# Altium footprint library aistlab.PcbLib: 29 footprints (part 1 of 2)
Each footprint in its own frame and in the unit in brackets; x right, y up, seen from the top. Pads: shape width x height; smd on the part's side, far side on the other; paste and mask are expansions set on the pad; w line width, h text height; cw(c..) or ccw(c..) is an arc to the next point about the centre after c.
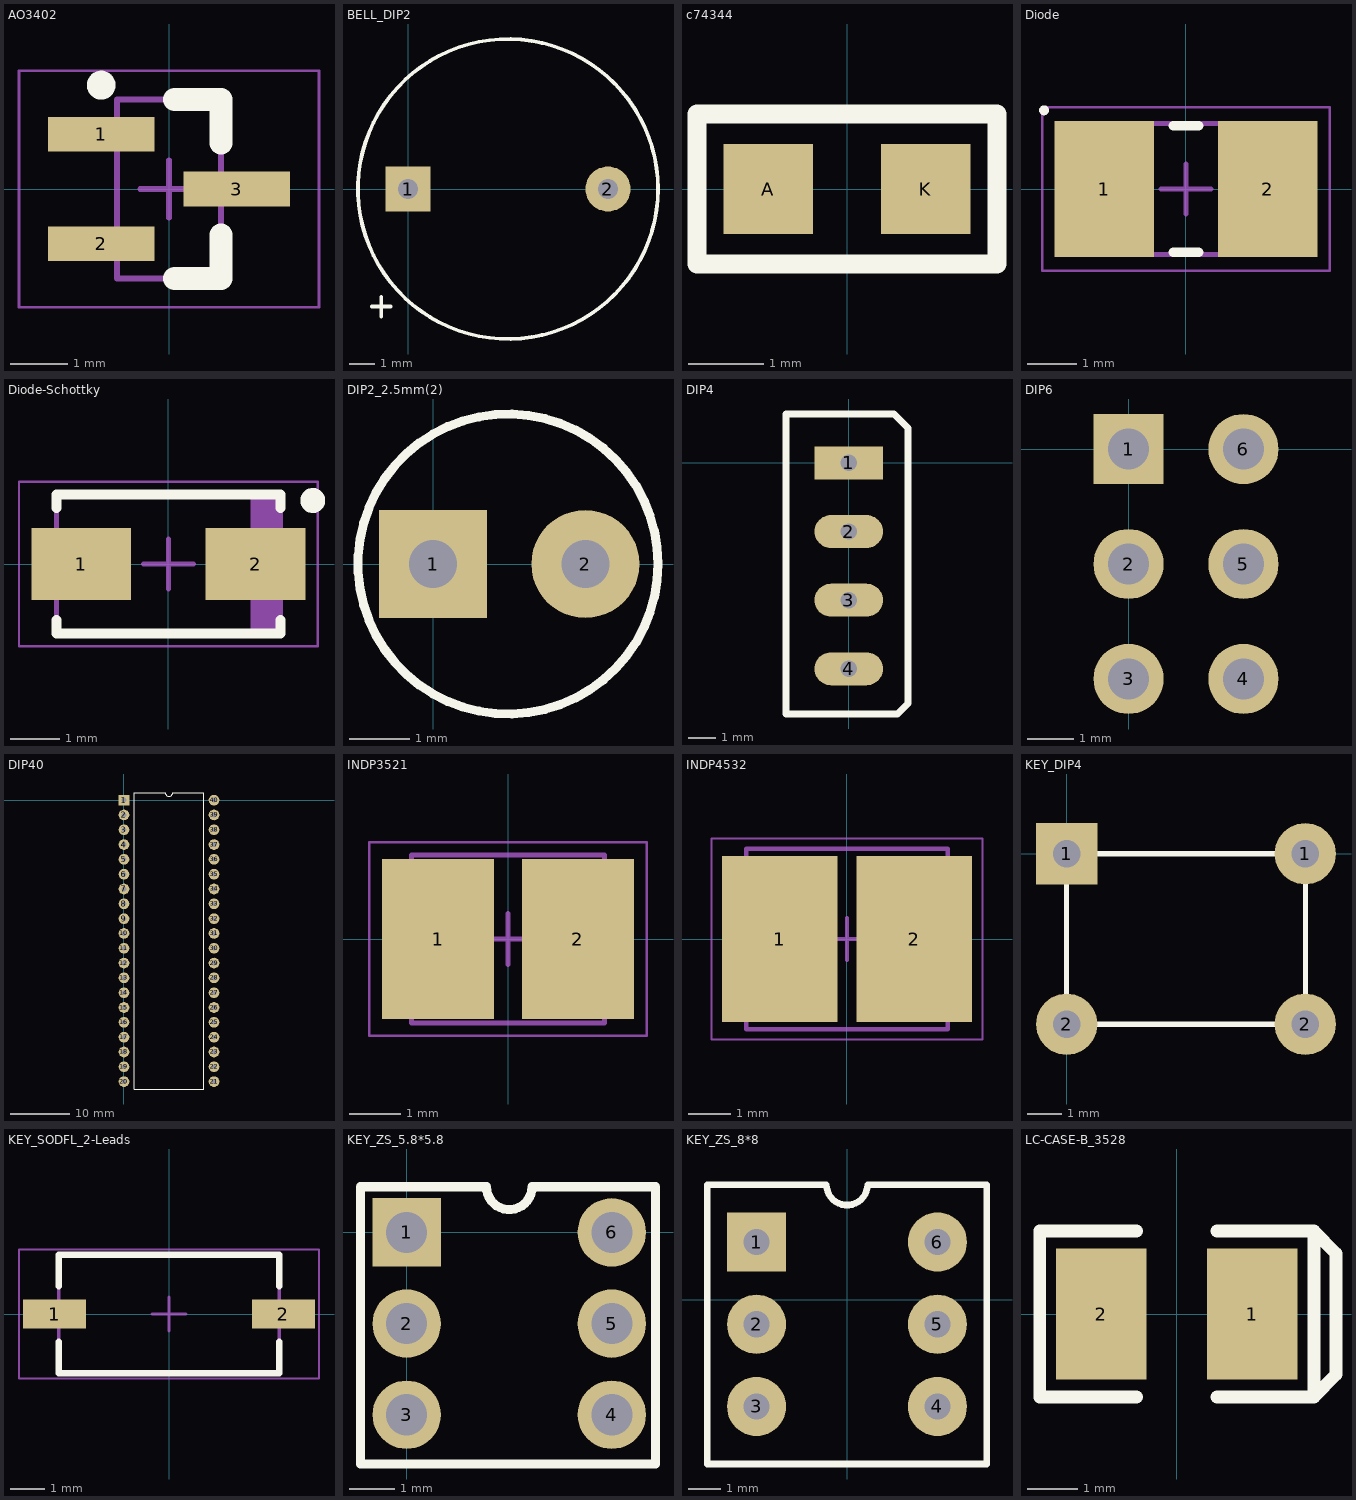
[diagram p0: the footprints below, top view; thin cyan lines are the x and y axes]

## AO3402 [mm] "SOT23, 3-Leads, Body 2.95x2.80mm, Pitch 0.95mm, IPC Low Density"
height 1.25
pads (3):
  rect 1.85x0.6 smd: 1(-1.175,0.95) 2(-1.175,-0.95) 3(1.175,0)
Top Overlay:
  circle w0.25: c-1.175,1.8 r0.125
  lines w0.4: 0.1,-1.55 0.9,-1.55 0.9,-0.8 ; 0.1,1.55 0.9,1.55 0.9,0.8
Mechanical 13:
  lines w0.1: -0.9,-1.55 -0.9,1.55 0.9,1.55 0.9,-1.55 -0.9,-1.55
Mechanical 15:
  lines w0.05: -2.6,-2.05 -2.6,2.05 2.6,2.05 2.6,-2.05 -2.6,-2.05
  lines w0.1: -0.5,0 0.5,0 ; 0,-0.5 0,0.5
3D body: height 1.25, standoff 0, extent -0.9,-1.55 0.9,1.55

## BELL_DIP2 [mm]
pads (2):
  rect 1.8x1.8 hole 0.8: 1(0,0)
  round 1.8 hole 0.8: 2(8,0)
Top Overlay:
  circle w0.15: c4,0 r6
  lines w0.15: -1.45,-4.7 -0.7,-4.7 ; -1.075,-5.1 -1.075,-4.325

## c74344 [mm]
pads (2):
  rect 1.2x1.2 smd: A(-1.05,0) K(1.05,0)
Top Overlay:
  lines w0.254: -2,-1 2,-1 2,1 -2,1 -2,-1

## Diode [mm] "Chip Capacitor, 2-Leads, Body 4.30x2.63mm, IPC Medium Density"
height 0.6
pads (2):
  rect 2x2.75 smd: 1(-1.65,0) 2(1.65,0)
Top Overlay:
  circle w0.1: c-2.862,1.587 r0.05
  lines w0.2: -0.25,-1.275 0.25,-1.275 ; -0.25,1.275 0.25,1.275
Mechanical 13:
  lines w0.1: -2.225,-1.325 2.225,-1.325 2.225,1.325 -2.225,1.325 -2.225,-1.325
Mechanical 15:
  lines w0.05: -2.9,-1.65 2.9,-1.65 2.9,1.65 -2.9,1.65 -2.9,-1.65
  lines w0.1: -0.5,0 0.5,0 ; 0,-0.5 0,0.5
3D body: height 0.6, standoff 0, extent 0.825,-1.325 2.225,1.325
3D body: height 0.6, standoff 0, extent -2.225,-1.325 -0.825,1.325
3D body: height 0.6, standoff 0, extent -0.825,-1.325 0.825,1.325

## Diode-Schottky [mm] "Molded Diode, 2-Leads, Body 4.25x2.67mm, IPC Medium Density"
height 2
pads (2):
  rect 2x1.45 smd: 1(-1.75,0) 2(1.75,0)
Top Overlay:
  circle w0.25: c2.9,1.275 r0.125
  lines w0.2: -2.25,-1.125 -2.25,-1.4 2.25,-1.4 2.25,-1.125 ; -2.25,1.125 -2.25,1.4 2.25,1.4 2.25,1.125
Mechanical 13:
  rectangle: 1.645,-1.4 2.25,1.4
  lines w0.1: -2.25,-1.4 -2.25,1.4 2.25,1.4 2.25,-1.4 -2.25,-1.4
Mechanical 15:
  lines w0.05: -3,-1.65 -3,1.65 3,1.65 3,-1.65 -3,-1.65
  lines w0.1: -0.5,0 0.5,0 ; 0,-0.5 0,0.5
3D body "DIOM4227X20N.step": height 2, standoff 0, extent -2.47,-1.4 2.47,1.4

## DIP2_2.5mm(2) [mm]
pads (2):
  rect 1.8x1.8 hole 0.8: 1(0,0)
  round 1.8 hole 0.8: 2(2.54,0)
Top Overlay:
  circle w0.15: c1.25,0 r2.5

## DIP4 [mm]
pads (4):
  rect 2.5x1.2 hole 0.6: 1(0,0)
  oval 2.5x1.2 hole 0.6: 2(0,-2.5) 3(0,-5) 4(0,-7.5)
Top Overlay:
  lines w0.254: -2.286,-9.144 -2.286,1.778 1.651,1.778 2.159,1.27 2.159,-8.763 1.778,-9.144 -2.286,-9.144

## DIP6 [mil]
pads (6):
  rect 60x60 hole 35: 1(0,0)
  round 60 hole 35: 2(0,-98.43) 3(0,-196.85) 4(98.43,-196.85) 5(98.43,-98.43) 6(98.43,0)

## DIP40 [mm]
pads (40):
  rect 1.8x1.8 hole 0.8: 1(0,0)
  round 1.8 hole 0.8: 2(0,-2.5) 3(0,-5) 4(0,-7.5) 5(0,-10) 6(0,-12.5) 7(0,-15) 8(0,-17.5) 9(0,-20) 10(0,-22.5) 11(0,-25) 12(0,-27.5) 13(0,-30) 14(0,-32.5) 15(0,-35) 16(0,-37.5) 17(0,-40) 18(0,-42.5) 19(0,-45) 20(0,-47.5) 21(15.2,-47.5) 22(15.2,-45) 23(15.2,-42.5) 24(15.2,-40) 25(15.2,-37.5) 26(15.2,-35) 27(15.2,-32.5) 28(15.2,-30) 29(15.2,-27.5) 30(15.2,-25) 31(15.2,-22.5) 32(15.2,-20) 33(15.2,-17.5) 34(15.2,-15) 35(15.2,-12.5) 36(15.2,-10) 37(15.2,-7.5) 38(15.2,-5) 39(15.2,-2.5) 40(15.2,0)
Top Overlay:
  lines w0.2: 1.735,-48.75 1.735,1.25 6.975,1.25 ccw(c7.6,1.25) 8.225,1.25 13.465,1.25 13.465,-48.75 1.735,-48.75

## INDP3521 [mm] "Precision Wire Wound Inductor, 2-Leads, Body 3.50x3.00mm, IPC Medium Density"
height 2.1
pads (2):
  rect 2.2x3.15 smd: 1(-1.375,0) 2(1.375,0)
Mechanical 13:
  lines w0.1: -1.9,-1.65 1.9,-1.65 1.9,1.65 -1.9,1.65 -1.9,-1.65
Mechanical 15:
  lines w0.05: -2.725,-1.9 2.725,-1.9 2.725,1.9 -2.725,1.9 -2.725,-1.9
  lines w0.1: -0.5,0 0.5,0 ; 0,-0.5 0,0.5
3D body "INDP3530X21N.step": height 2.2, standoff 0, extent -1.85,-1.5 1.85,1.5

## INDP4532 [mm] "Precision Wire Wound Inductor, 2-Leads, Body 4.50x4.00mm, IPC Medium Density 电感4532封装"
height 3
pads (2):
  rect 2.75x3.95 smd: 1(-1.6,0) 2(1.6,0)
Mechanical 13:
  lines w0.1: -2.4,-2.15 2.4,-2.15 2.4,2.15 -2.4,2.15 -2.4,-2.15
Mechanical 15:
  lines w0.05: -3.225,-2.4 3.225,-2.4 3.225,2.4 -3.225,2.4 -3.225,-2.4
  lines w0.1: -0.5,0 0.5,0 ; 0,-0.5 0,0.5
3D body "INDP4540X30N.step": height 3.1, standoff 0, extent -2.35,-2 2.35,2

## KEY_DIP4 [mm]
pads (4):
  rect 1.8x1.8 hole 0.8: 1(0,0)
  round 1.8 hole 0.8: 1(7,0) 2(0,-5) 2(7,-5)
Top Overlay:
  lines w0.15: 0,-5 7,-5 7,0 0,0 0,-5
3D body "User Library-TPxxxx (Switch).STEP": height 5.9, standoff -2.59, extent -0.56,-5.461 7.418,0.539

## KEY_SODFL_2-Leads [mm] "SODFL, 2-Leads, Body 3.25x8.00mm, IPC Medium Density"
height 2
pads (2):
  rect 1.85x0.85 smd: 1(-3.375,0) 2(3.375,0)
Top Overlay:
  lines w0.2: -3.25,-0.825 -3.25,-1.75 3.25,-1.75 3.25,-0.825 ; -3.25,0.825 -3.25,1.75 3.25,1.75 3.25,0.825
Mechanical 13:
  lines w0.1: -3.25,-1.75 -3.25,1.75 3.25,1.75 3.25,-1.75 -3.25,-1.75
Mechanical 15:
  lines w0.05: -4.425,-1.9 -4.425,1.9 4.425,1.9 4.425,-1.9 -4.425,-1.9
  lines w0.1: -0.5,0 0.5,0 ; 0,-0.5 0,0.5
3D body "User Library-SWT-39.step": height 2.5, standoff 0, extent -4,-1.795 4,1.905

## KEY_ZS_5.8*5.8 [mm]
pads (6):
  rect 1.5x1.5 hole 0.9: 1(0,0)
  round 1.5 hole 0.9: 2(0,-2) 3(0,-4) 4(4.5,-4) 5(4.5,-2) 6(4.5,0)
Top Overlay:
  lines w0.2: -1.016,-5.08 5.461,-5.08 5.461,1 2.75,1 cw(c2.25,1) 1.75,1 -1.016,1 -1.016,-5.08

## KEY_ZS_8*8 [mm]
pads (6):
  rect 1.8x1.8 hole 0.8: 1(-2.75,1.75)
  round 1.8 hole 0.8: 2(-2.75,-0.75) 3(-2.75,-3.25) 4(2.75,-3.25) 5(2.75,-0.75) 6(2.75,1.75)
Top Overlay:
  lines w0.2: -4.25,-5 -4.25,3.5 -0.625,3.5 ccw(c0,3.5) 0.625,3.5 4.25,3.5 4.25,-5 -4.25,-5
3D body "User Library-button with fixation.step": height 13, standoff -4, extent -3.5,-4.262 3.5,2.738

## LC-CASE-B_3528 [mm]
pads (2):
  rect 1.8x2.6 smd: 1(1.5,0) 2(-1.5,0)
Top Overlay:
  lines w0.254: -0.8,-1.65 -2.727,-1.65 -2.727,1.65 -0.8,1.65 ; 0.8,-1.65 2.727,-1.65 ; 0.8,1.65 2.727,1.65 ; 2.727,-1.65 2.727,1.65 ; 2.727,-1.65 3.163,-1.2 3.163,1.2 2.727,1.65
3D body "User Library-AVX_BCASE.STEP": height 2.03, standoff 0, extent -1.85,-1.465 1.85,1.465